# EAGLE library part AM3T-XXXXD (library Power)
AIMTEC 3 Watt | DC-DC Converter | Dual output
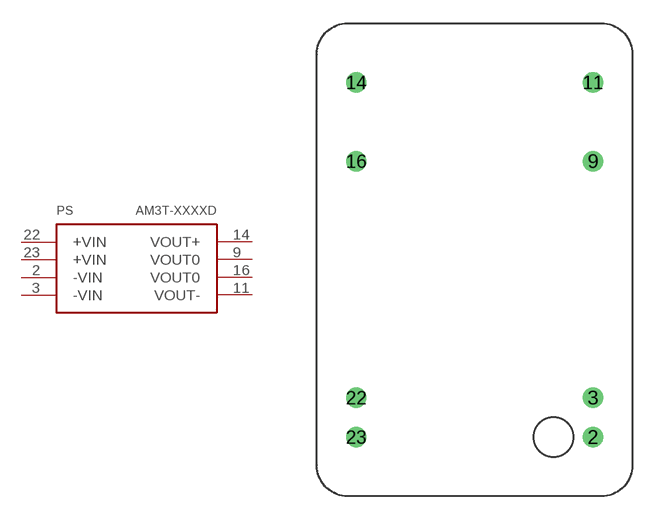
[diagram p0: symbol with the pads of AM3T; footprint AM3T]

Designator prefix PS

## AM3T-XXXXD  [AM3T]
2  -VIN
3  -VIN
9  VOUT0
11  VOUT-
14  VOUT+
16  VOUT0
22  +VIN
23  +VIN

## Footprint AM3T (pad centres in mm)
3W DC-DC converter DIL24
drill 0.8: 2 7.62,-11.43; 3 7.62,-8.89; 9 7.62,6.35; 11 7.62,11.43; 14 -7.62,11.43; 16 -7.62,6.35; 22 -7.62,-8.89; 23 -7.62,-11.43